# EAGLE library part CD4021 (library TinyNES_Library)
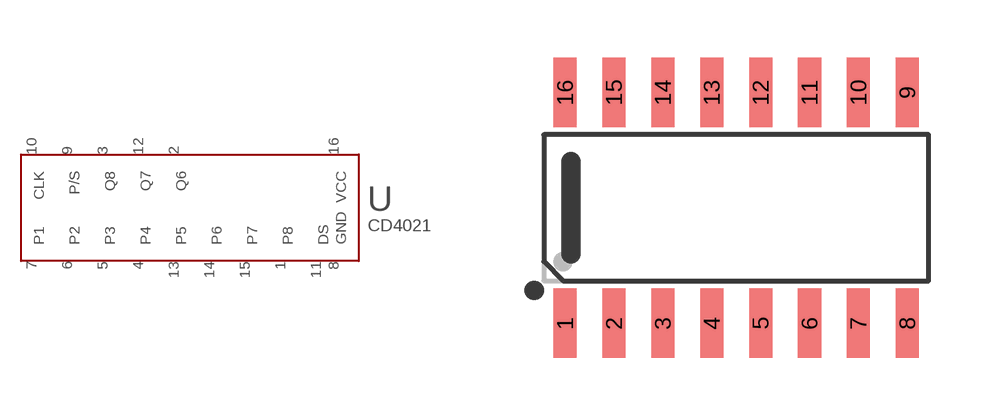
[diagram p14: symbol with the pads of SOIC-16; footprint SOIC-16]

Designator prefix U

## CD4021  [SOIC-16]
1  P8
2  Q6
3  Q8
4  P4
5  P3
6  P2
7  P1
8  GND
9  P/S
10  CLK
11  DS
12  Q7
13  P5
14  P6
15  P7
16  VCC

## Footprint SOIC-16 (pad centres in mm)
smd 0.6 x 1.8: 1 -4.445,-3; 2 -3.175,-3; 3 -1.905,-3; 4 -0.635,-3; 5 0.635,-3; 6 1.905,-3; 7 3.175,-3; 8 4.445,-3; 9 4.445,3; 10 3.175,3; 11 1.905,3; 12 0.635,3; 13 -0.635,3; 14 -1.905,3; 15 -3.175,3; 16 -4.445,3